# EAGLE library part AS-ITM-00198 (library tinycircuits)
IC FRAM 2MBIT 40MHZ 8SOP
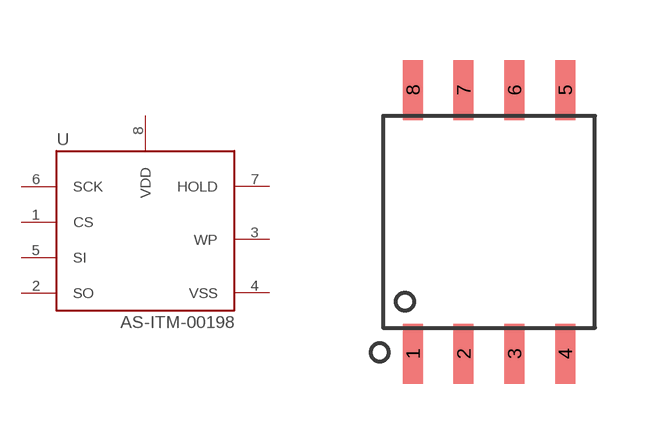
[diagram p86: symbol with the pads of FPT-8P-M08; footprint FPT-8P-M08]

Designator prefix U

## AS-ITM-00198 (PARTNO: AS-ITM-00198; VALUE: MB85RS2MTPF-G-JNERE1)  [FPT-8P-M08]
1  CS
2  SO
3  WP
4  VSS
5  SI
6  SCK
7  HOLD
8  VDD

## Footprint FPT-8P-M08 (pad centres in mm)
smd 0.5 x 1.5: 1 -1.905,-3.3; 2 -0.635,-3.3; 3 0.635,-3.3; 4 1.905,-3.3; 5 1.905,3.3; 6 0.635,3.3; 7 -0.635,3.3; 8 -1.905,3.3